# Altium footprint library SolarPanel7Cells.PcbLib: 2 footprints
Each footprint in its own frame and in the unit in brackets; x right, y up, seen from the top. Pads: shape width x height; smd on the part's side, far side on the other; paste and mask are expansions set on the pad; w line width, h text height; cw(c..) or ccw(c..) is an arc to the next point about the centre after c.
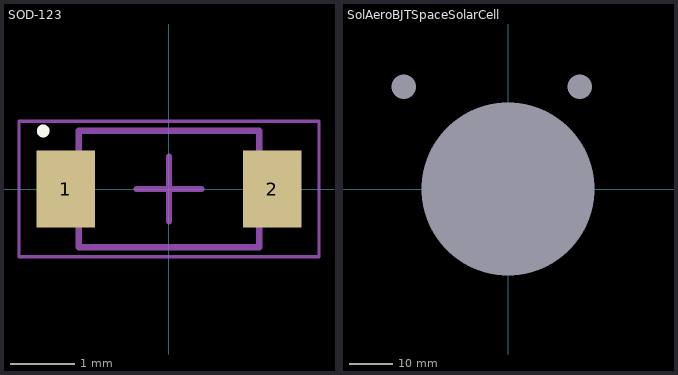
[diagram p0: the footprints below, top view; thin cyan lines are the x and y axes]

## SOD-123 [mm] "SODFL, 2-Leads, Body 1.60x3.75mm, IPC Medium Density"
height 1.35
pads (2):
  rect 0.9x1.2 smd: 1(-1.6,0) 2(1.6,0)
Top Overlay:
  circle w0.1: c-1.95,0.9 r0.05
Mechanical 13:
  lines w0.1: -1.4,-0.9 1.4,-0.9 1.4,0.9 -1.4,0.9 -1.4,-0.9
Mechanical 15:
  lines w0.05: -2.325,-1.05 2.325,-1.05 2.325,1.05 -2.325,1.05 -2.325,-1.05
  lines w0.1: -0.5,0 0.5,0 ; 0,-0.5 0,0.5
3D body: height 1.35, standoff 0, extent -1.4,-0.9 1.4,0.9

## SolAeroBJTSpaceSolarCell [mm] "Solar Cell"
pads (3):
  round 1.524 hole 39.68 square: 1(0,0)
  round 1.524 hole 5.57 square: 2(-24,23.5) 2(16.5,23.5)